# EAGLE library part MD08SS (library con-yamaichi)
YAMAICHI CONNECTOR
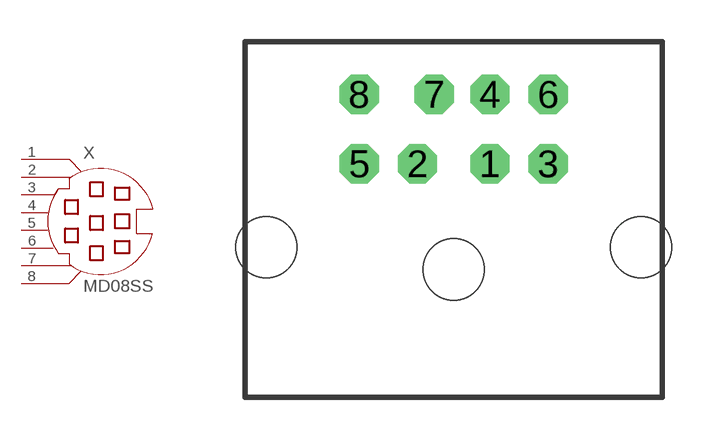
[diagram p7: symbol with the pads of MDIN08SS; footprint MDIN08SS]

Designator prefix X

## MD08SS (OC_FARNELL: unknown; OC_NEWARK: unknown)  [MDIN08SS]
1  1  pas
2  2  pas
3  3  pas
4  4  pas
5  5  pas
6  6  pas
7  7  pas
8  8  pas

## Footprint MDIN08SS (pad centres in mm)
Mini Din YAMAICHI CONNECTOR
drill 0.9 octagon: 1 1.3,8.5; 2 -1.3,8.5; 3 3.4,8.5; 4 1.3,11; 5 -3.4,8.5; 6 3.4,11; 7 -0.7,11; 8 -3.4,11
hole 2.2 at -6.75,5.5
hole 2.2 at 0,4.7
hole 2.2 at 6.75,5.5